# EAGLE library part IC_MCP3001 (library dp_devices)
10-Bit ADC with SPI interface
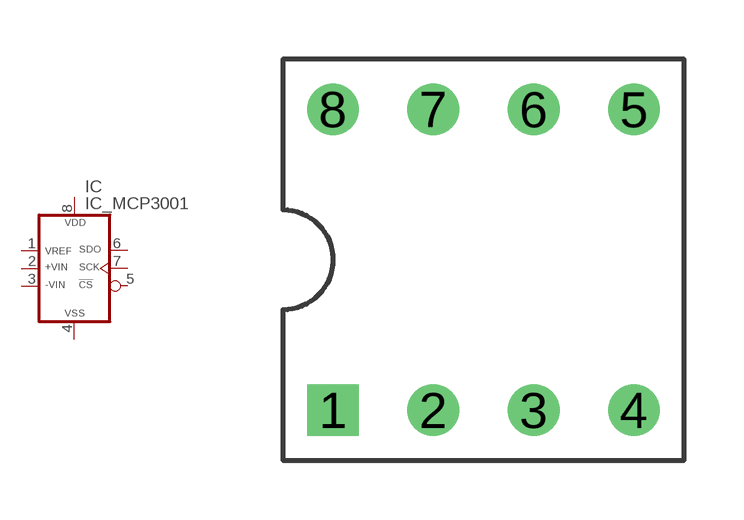
[diagram p133: symbol with the pads of DIP8; footprint DIP8]

Designator prefix IC

## IC_MCP3001-DIP8  [DIP8]
1  VREF  in
2  +VIN  in
3  -VIN  in
4  VSS  pwr
5  !CS  in
6  SDO  out
7  SCK  in
8  VDD  pwr

## Footprint DIP8 (pad centres in mm)
drill 0.8 square: 1 -3.81,-3.81
drill 0.8 round: 2 -1.27,-3.81; 3 1.27,-3.81; 4 3.81,-3.81; 5 3.81,3.81; 6 1.27,3.81; 7 -1.27,3.81; 8 -3.81,3.81